# Altium schematic symbol library Sensor.SchLib: 3 symbols
Pins are listed as number, name and electrical type; pins without a type are passive.

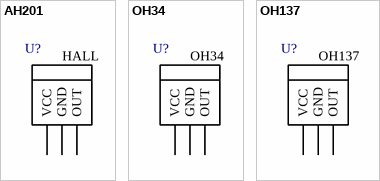
[diagram p0: symbols AH201 to OH137]

## AH201
designator U?
Hall; Vaiue: HALL
footprint HALL
pins: 1 VCC, 2 GND, 3 OUT

## OH34
designator U?  Vaiue: OH34
Hall
footprint SOT23
pins: 1 VCC, 2 GND, 3 OUT

## OH137
designator U?  Vaiue: OH137
Hall
footprint HALL
pins: 1 VCC, 2 GND, 3 OUT